# Altium footprint library LED_XL-2020RGBC-WS2812B.PcbLib: 1 footprints
Each footprint in its own frame and in the unit in brackets; x right, y up, seen from the top. Pads: shape width x height; smd on the part's side, far side on the other; paste and mask are expansions set on the pad; w line width, h text height; cw(c..) or ccw(c..) is an arc to the next point about the centre after c.
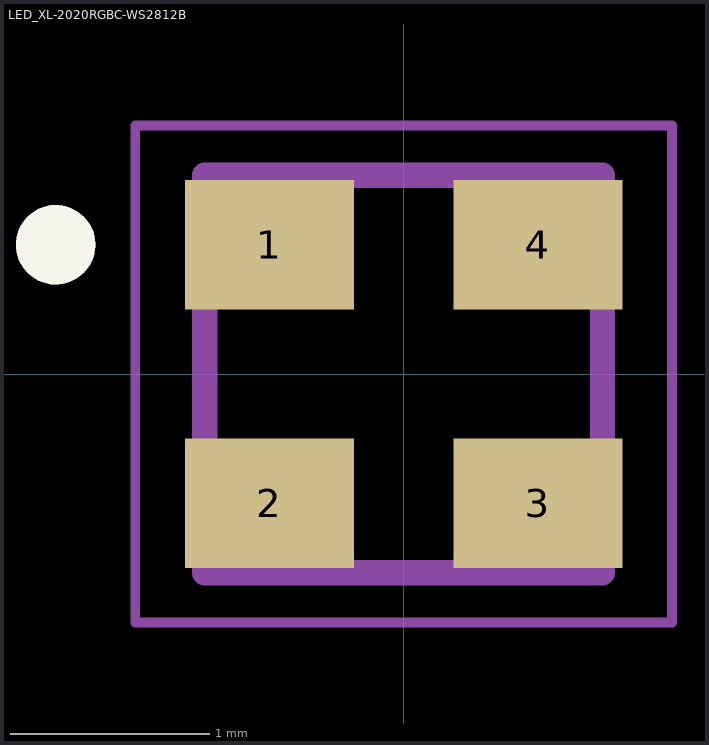
[diagram p0: the footprint, top view; thin cyan lines are the x and y axes]

## LED_XL-2020RGBC-WS2812B [mm]
height 0.65
pads (4):
  rect 0.85x0.65 smd: 1(-0.675,0.65) 2(-0.675,-0.65) 3(0.675,-0.65) 4(0.675,0.65)
Top Overlay:
  circle w0.2: c-1.75,0.65 r0.1
Assembly Top:
  circle w0.2: c-1.75,0.65 r0.1
  lines w0.127: -1,-1 -1,1 1,1 1,-1 -1,-1
Courtyard Top:
  lines w0.05: -1.35,-1.25 -1.35,1.25 1.35,1.25 1.35,-1.25 -1.35,-1.25
3D body "WS2812-2020--3DModel-STEP-1.STEP": height 0.84, standoff 0, extent -1.1,-1.016 1.1,0.984